# Altium integrated library Analog Devices Data Converters Digital-to-Analog Converters.IntLib: 2231 symbols (part 80 of 181)
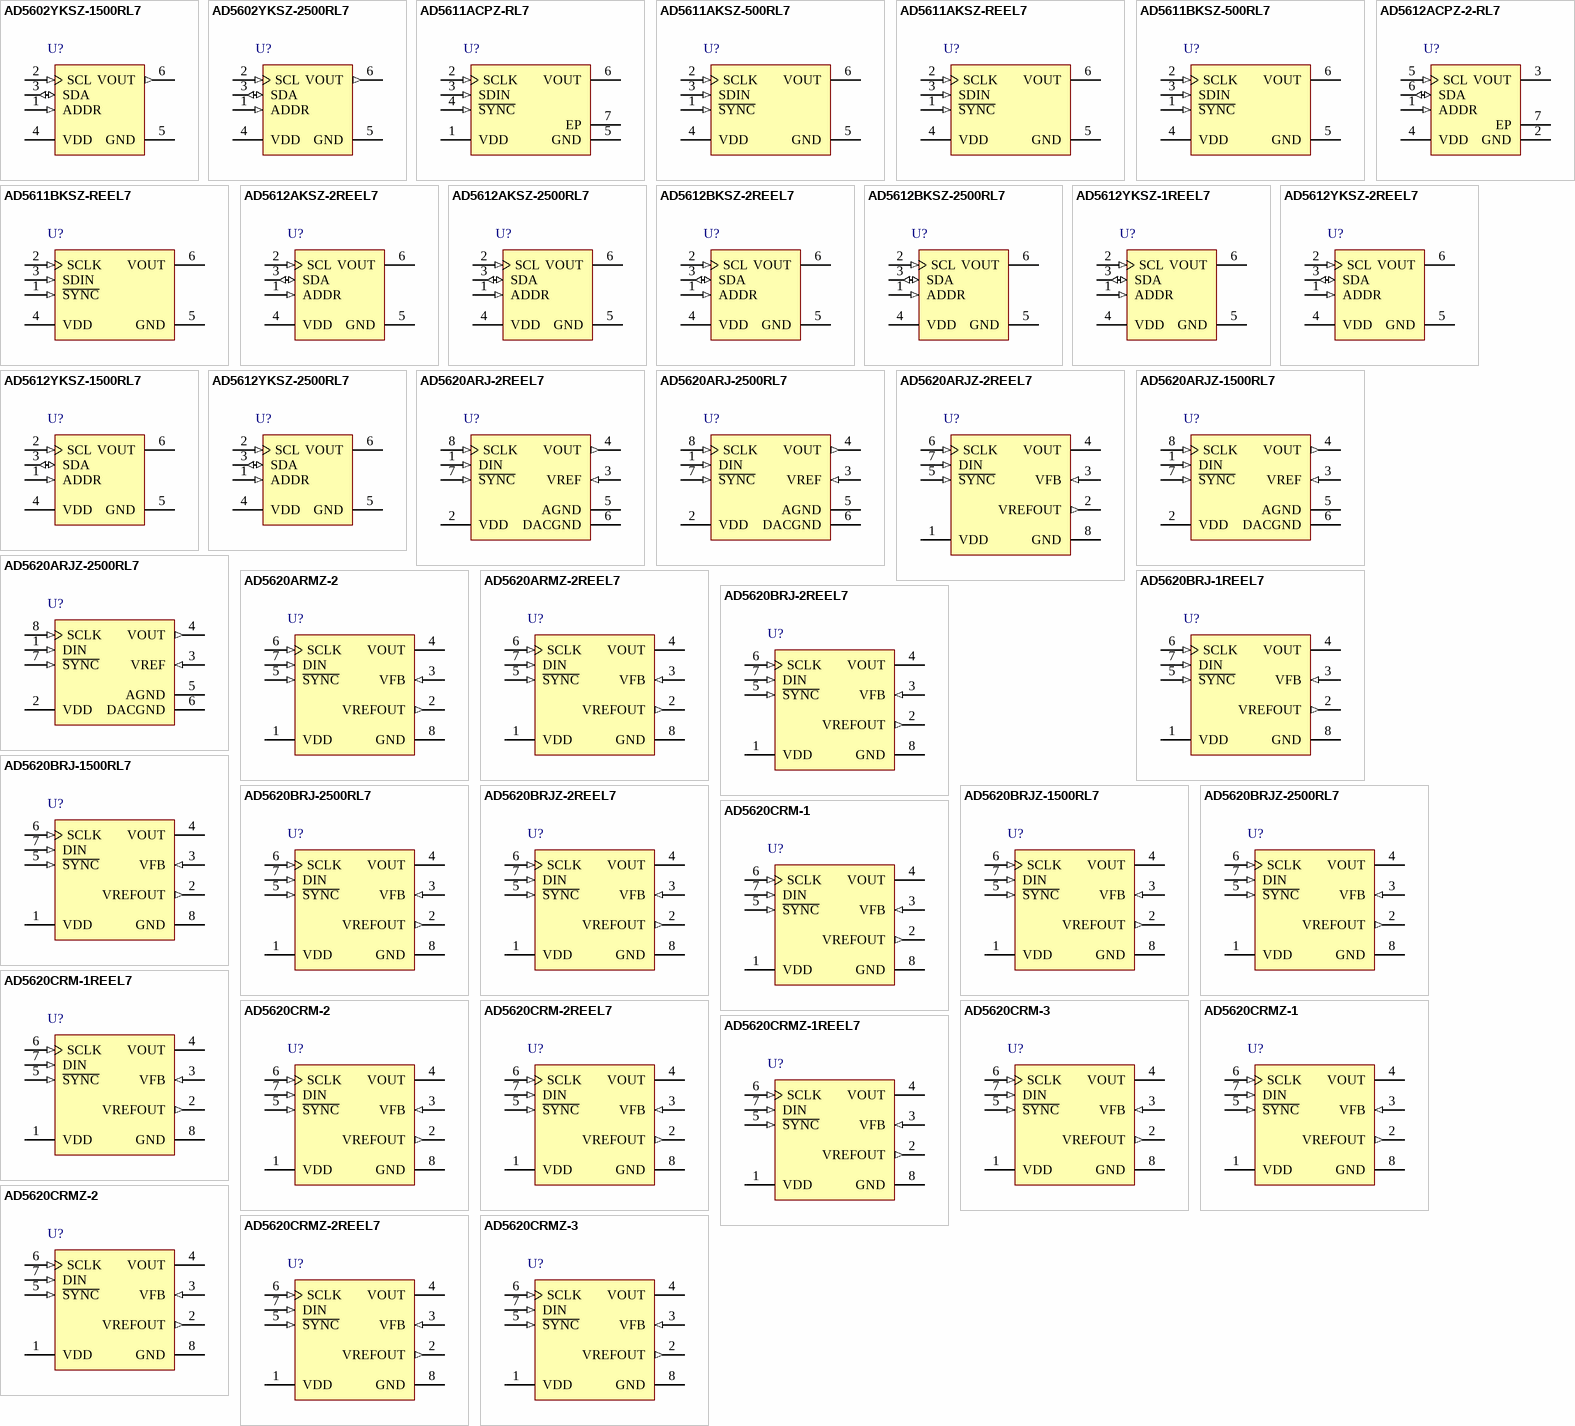
[diagram p193: symbols AD5602YKSZ-1500RL7 to AD5620CRMZ-3]

## AD5620CRM-3
designator U?
Single 12-Bit nanoDAC with 5 ppm/degC On-Chip Reference, -40 to +105 degC, RM-8, Tube; Generic Part Number: AD5620; Manufacturer: Analog Devices; PartNumber: AD5620CRM-3; # DAC Outputs: 1; Max V+: 5.5V; Op Pwr Diss: 5mW; Resolution (Bits): 12; Settling Time: 8µs; Single Supply: Yes; DatasheetVersion: Rev.F; PackageVersion: Aug-2005; PackageReference: RM-8; PackageDescription: 8-Lead Mini Small Outline Package [MSOP]; Supplier 1: Digi-Key; Supplier Part Number 1: AD5620CRM-3-ND; Supplier 2: Mouser; Supplier Part Number 2: 584-AD5620CRM-3; Packing: Tube; RoHS: N; Mounting Technology: Surface Mount; Code_JEDEC: MO-187-AA; ComponentLink1Description: Manufacturer URL; ComponentLink1URL: http://www.analog.com/en/index.html; ComponentLink2Description: Datasheet; ComponentLink2URL: http://www.analog.com/static/imported-files/data_sheets/AD5620_5640_5660.pdf; ComponentLink3Description: Package Specification; ComponentLink3URL: http://www.analog.com/static/imported-files/packages/PKG_PDF/MSOP%28RM%29/RM_8.pdf; ComponentLink4Description: Product URL; ComponentLink4URL: http://www.analog.com/en/digital-to-analog-converters/da-converters/ad5620/products/product.html; ComponentLink5Description: Reference Design URL; ComponentLink5URL: http://www.analog.com/en/digital-to-analog-converters/da-converters/ad5620/products/product.html#prod_cross_sell
footprint RM-8_N (TSOP, 8-Leads, Body 3x3mm, Pitch 0.65mm, IPC Medium Density)
footprint RM-8_L (TSOP, 8-Leads, Body 3x3mm, Pitch 0.65mm, IPC High Density)
footprint RM-8_M (TSOP, 8-Leads, Body 3x3mm, Pitch 0.65mm, IPC Low Density)
pins: 1 VDD (power) "Power Supply Input. These parts can operate from 2.7 V to 5.5 V. VDD should be decoupled to GND.", 2 VREFOUT (out) "Reference Voltage Output.", 3 VFB (in) "Feedback Connection for the Output Amplifier. VFB should be connected to VOUT for normal operation.", 4 VOUT (hiz) "Analog Output Voltage from DAC. The output amplifier has rail-to-rail operation.", 5 ~{SYNC} (in) "Level-Triggered Control Input (Active Low). This is the frame synchronization signal for the input data. When S\Y\N\C\ goes low, it enables the input shift register and data is transferred in on the falling edges of the (See Datasheet)", 6 SCLK (in) "Serial Clock Input. Data is clocked into the input shift register on the falling edge of the serial clock input. Data can be transferred at rates up to 30 MHz.", 7 DIN (in) "Serial Data Input. the AD5620 have a 16-bit shift register. Data is clocked into the register on the falling edge of the serial clock input.", 8 GND (power) "Ground Reference Point for all Circuitry on the Part."

## AD5620CRMZ-1
designator U?
Single 12-Bit nanoDAC with 5 ppm/degC On-Chip Reference, -40 to +105 degC, RM-8, Pb-Free, Tube; Generic Part Number: AD5620; Manufacturer: Analog Devices; PartNumber: AD5620CRMZ-1; # DAC Outputs: 1; Max V+: 5.5V; Op Pwr Diss: 5mW; Resolution (Bits): 12; Settling Time: 8µs; Single Supply: Yes; DatasheetVersion: Rev.F; PackageVersion: Aug-2005; PackageReference: RM-8; PackageDescription: 8-Lead Mini Small Outline Package [MSOP]; Supplier 1: Digi-Key; Supplier Part Number 1: AD5620CRMZ-1-ND; Supplier 2: Newark; Supplier Part Number 2: 91R2578; Supplier 3: Mouser; Supplier Part Number 3: 584-AD5620CRMZ-1; Packing: Tube; RoHS: Y; Mounting Technology: Surface Mount; Code_JEDEC: MO-187-AA; ComponentLink1Description: Manufacturer URL; ComponentLink1URL: http://www.analog.com/en/index.html; ComponentLink2Description: Datasheet; ComponentLink2URL: http://www.analog.com/static/imported-files/data_sheets/AD5620_5640_5660.pdf; ComponentLink3Description: Package Specification; ComponentLink3URL: http://www.analog.com/static/imported-files/packages/PKG_PDF/MSOP%28RM%29/RM_8.pdf; ComponentLink4Description: Product URL; ComponentLink4URL: http://www.analog.com/en/digital-to-analog-converters/da-converters/ad5620/products/product.html; ComponentLink5Description: Reference Design URL; ComponentLink5URL: http://www.analog.com/en/digital-to-analog-converters/da-converters/ad5620/products/product.html#prod_cross_sell
footprint RM-8_N (TSOP, 8-Leads, Body 3x3mm, Pitch 0.65mm, IPC Medium Density)
footprint RM-8_L (TSOP, 8-Leads, Body 3x3mm, Pitch 0.65mm, IPC High Density)
footprint RM-8_M (TSOP, 8-Leads, Body 3x3mm, Pitch 0.65mm, IPC Low Density)
pins: 1 VDD (power) "Power Supply Input. These parts can operate from 2.7 V to 5.5 V. VDD should be decoupled to GND.", 2 VREFOUT (out) "Reference Voltage Output.", 3 VFB (in) "Feedback Connection for the Output Amplifier. VFB should be connected to VOUT for normal operation.", 4 VOUT (hiz) "Analog Output Voltage from DAC. The output amplifier has rail-to-rail operation.", 5 ~{SYNC} (in) "Level-Triggered Control Input (Active Low). This is the frame synchronization signal for the input data. When S\Y\N\C\ goes low, it enables the input shift register and data is transferred in on the falling edges of the (See Datasheet)", 6 SCLK (in) "Serial Clock Input. Data is clocked into the input shift register on the falling edge of the serial clock input. Data can be transferred at rates up to 30 MHz.", 7 DIN (in) "Serial Data Input. the AD5620 have a 16-bit shift register. Data is clocked into the register on the falling edge of the serial clock input.", 8 GND (power) "Ground Reference Point for all Circuitry on the Part."

## AD5620CRMZ-1REEL7
designator U?
Single 12-Bit nanoDAC with 5 ppm/degC On-Chip Reference, -40 to +105 degC, RM-8, Pb-Free, Reel; Generic Part Number: AD5620; Manufacturer: Analog Devices; PartNumber: AD5620CRMZ-1REEL7; # DAC Outputs: 1; Max V+: 5.5V; Op Pwr Diss: 5mW; Resolution (Bits): 12; Settling Time: 8µs; Single Supply: Yes; DatasheetVersion: Rev.F; PackageVersion: Aug-2005; PackageReference: RM-8; PackageDescription: 8-Lead Mini Small Outline Package [MSOP]; Supplier 1: Digi-Key; Supplier Part Number 1: AD5620CRMZ-1REEL7-ND; Supplier 2: Newark; Supplier Part Number 2: 91R2579; Supplier 3: Mouser; Supplier Part Number 3: 584-AD5620CRMZ-1R7; Packing: Reel; RoHS: Y; Mounting Technology: Surface Mount; Code_JEDEC: MO-187-AA; ComponentLink1Description: Manufacturer URL; ComponentLink1URL: http://www.analog.com/en/index.html; ComponentLink2Description: Datasheet; ComponentLink2URL: http://www.analog.com/static/imported-files/data_sheets/AD5620_5640_5660.pdf; ComponentLink3Description: Package Specification; ComponentLink3URL: http://www.analog.com/static/imported-files/packages/PKG_PDF/MSOP%28RM%29/RM_8.pdf; ComponentLink4Description: Product URL; ComponentLink4URL: http://www.analog.com/en/digital-to-analog-converters/da-converters/ad5620/products/product.html; ComponentLink5Description: Reference Design URL; ComponentLink5URL: http://www.analog.com/en/digital-to-analog-converters/da-converters/ad5620/products/product.html#prod_cross_sell
footprint RM-8_N (TSOP, 8-Leads, Body 3x3mm, Pitch 0.65mm, IPC Medium Density)
footprint RM-8_L (TSOP, 8-Leads, Body 3x3mm, Pitch 0.65mm, IPC High Density)
footprint RM-8_M (TSOP, 8-Leads, Body 3x3mm, Pitch 0.65mm, IPC Low Density)
pins: 1 VDD (power) "Power Supply Input. These parts can operate from 2.7 V to 5.5 V. VDD should be decoupled to GND.", 2 VREFOUT (out) "Reference Voltage Output.", 3 VFB (in) "Feedback Connection for the Output Amplifier. VFB should be connected to VOUT for normal operation.", 4 VOUT (hiz) "Analog Output Voltage from DAC. The output amplifier has rail-to-rail operation.", 5 ~{SYNC} (in) "Level-Triggered Control Input (Active Low). This is the frame synchronization signal for the input data. When S\Y\N\C\ goes low, it enables the input shift register and data is transferred in on the falling edges of the (See Datasheet)", 6 SCLK (in) "Serial Clock Input. Data is clocked into the input shift register on the falling edge of the serial clock input. Data can be transferred at rates up to 30 MHz.", 7 DIN (in) "Serial Data Input. the AD5620 have a 16-bit shift register. Data is clocked into the register on the falling edge of the serial clock input.", 8 GND (power) "Ground Reference Point for all Circuitry on the Part."

## AD5620CRMZ-2
designator U?
Single 12-Bit nanoDAC with 5 ppm/degC On-Chip Reference, -40 to +105 degC, RM-8, Pb-Free, Tube; Generic Part Number: AD5620; Manufacturer: Analog Devices; PartNumber: AD5620CRMZ-2; # DAC Outputs: 1; Max V+: 5.5V; Op Pwr Diss: 5mW; Resolution (Bits): 12; Settling Time: 8µs; Single Supply: Yes; DatasheetVersion: Rev.F; PackageVersion: Aug-2005; PackageReference: RM-8; PackageDescription: 8-Lead Mini Small Outline Package [MSOP]; Supplier 1: Digi-Key; Supplier Part Number 1: AD5620CRMZ-2-ND; Supplier 2: Farnell; Supplier Part Number 2: 1438913; Supplier 3: Newark; Supplier Part Number 3: 28M3996; Supplier 4: Mouser; Supplier Part Number 4: 584-AD5620CRMZ-2; Packing: Tube; RoHS: Y; Mounting Technology: Surface Mount; Code_JEDEC: MO-187-AA; ComponentLink1Description: Manufacturer URL; ComponentLink1URL: http://www.analog.com/en/index.html; ComponentLink2Description: Datasheet; ComponentLink2URL: http://www.analog.com/static/imported-files/data_sheets/AD5620_5640_5660.pdf; ComponentLink3Description: Package Specification; ComponentLink3URL: http://www.analog.com/static/imported-files/packages/PKG_PDF/MSOP%28RM%29/RM_8.pdf; ComponentLink4Description: Product URL; ComponentLink4URL: http://www.analog.com/en/digital-to-analog-converters/da-converters/ad5620/products/product.html; ComponentLink5Description: Reference Design URL; ComponentLink5URL: http://www.analog.com/en/digital-to-analog-converters/da-converters/ad5620/products/product.html#prod_cross_sell
footprint RM-8_N (TSOP, 8-Leads, Body 3x3mm, Pitch 0.65mm, IPC Medium Density)
footprint RM-8_L (TSOP, 8-Leads, Body 3x3mm, Pitch 0.65mm, IPC High Density)
footprint RM-8_M (TSOP, 8-Leads, Body 3x3mm, Pitch 0.65mm, IPC Low Density)
pins: 1 VDD (power) "Power Supply Input. These parts can operate from 2.7 V to 5.5 V. VDD should be decoupled to GND.", 2 VREFOUT (out) "Reference Voltage Output.", 3 VFB (in) "Feedback Connection for the Output Amplifier. VFB should be connected to VOUT for normal operation.", 4 VOUT (hiz) "Analog Output Voltage from DAC. The output amplifier has rail-to-rail operation.", 5 ~{SYNC} (in) "Level-Triggered Control Input (Active Low). This is the frame synchronization signal for the input data. When S\Y\N\C\ goes low, it enables the input shift register and data is transferred in on the falling edges of the (See Datasheet)", 6 SCLK (in) "Serial Clock Input. Data is clocked into the input shift register on the falling edge of the serial clock input. Data can be transferred at rates up to 30 MHz.", 7 DIN (in) "Serial Data Input. the AD5620 have a 16-bit shift register. Data is clocked into the register on the falling edge of the serial clock input.", 8 GND (power) "Ground Reference Point for all Circuitry on the Part."

## AD5620CRMZ-2REEL7
designator U?
Single 12-Bit nanoDAC with 5 ppm/degC On-Chip Reference, -40 to +105 degC, RM-8, Pb-Free, Reel; Generic Part Number: AD5620; Manufacturer: Analog Devices; PartNumber: AD5620CRMZ-2REEL7; # DAC Outputs: 1; Max V+: 5.5V; Op Pwr Diss: 5mW; Resolution (Bits): 12; Settling Time: 8µs; Single Supply: Yes; DatasheetVersion: Rev.F; PackageVersion: Aug-2005; PackageReference: RM-8; PackageDescription: 8-Lead Mini Small Outline Package [MSOP]; Supplier 1: Digi-Key; Supplier Part Number 1: AD5620CRMZ-2REEL7-ND; Supplier 2: Newark; Supplier Part Number 2: 28M3997; Supplier 3: Mouser; Supplier Part Number 3: 584-AD5620CRMZ-2R7; Packing: Reel; RoHS: Y; Mounting Technology: Surface Mount; Code_JEDEC: MO-187-AA; ComponentLink1Description: Manufacturer URL; ComponentLink1URL: http://www.analog.com/en/index.html; ComponentLink2Description: Datasheet; ComponentLink2URL: http://www.analog.com/static/imported-files/data_sheets/AD5620_5640_5660.pdf; ComponentLink3Description: Package Specification; ComponentLink3URL: http://www.analog.com/static/imported-files/packages/PKG_PDF/MSOP%28RM%29/RM_8.pdf; ComponentLink4Description: Product URL; ComponentLink4URL: http://www.analog.com/en/digital-to-analog-converters/da-converters/ad5620/products/product.html; ComponentLink5Description: Reference Design URL; ComponentLink5URL: http://www.analog.com/en/digital-to-analog-converters/da-converters/ad5620/products/product.html#prod_cross_sell
footprint RM-8_N (TSOP, 8-Leads, Body 3x3mm, Pitch 0.65mm, IPC Medium Density)
footprint RM-8_L (TSOP, 8-Leads, Body 3x3mm, Pitch 0.65mm, IPC High Density)
footprint RM-8_M (TSOP, 8-Leads, Body 3x3mm, Pitch 0.65mm, IPC Low Density)
pins: 1 VDD (power) "Power Supply Input. These parts can operate from 2.7 V to 5.5 V. VDD should be decoupled to GND.", 2 VREFOUT (out) "Reference Voltage Output.", 3 VFB (in) "Feedback Connection for the Output Amplifier. VFB should be connected to VOUT for normal operation.", 4 VOUT (hiz) "Analog Output Voltage from DAC. The output amplifier has rail-to-rail operation.", 5 ~{SYNC} (in) "Level-Triggered Control Input (Active Low). This is the frame synchronization signal for the input data. When S\Y\N\C\ goes low, it enables the input shift register and data is transferred in on the falling edges of the (See Datasheet)", 6 SCLK (in) "Serial Clock Input. Data is clocked into the input shift register on the falling edge of the serial clock input. Data can be transferred at rates up to 30 MHz.", 7 DIN (in) "Serial Data Input. the AD5620 have a 16-bit shift register. Data is clocked into the register on the falling edge of the serial clock input.", 8 GND (power) "Ground Reference Point for all Circuitry on the Part."

## AD5620CRMZ-3
designator U?
Single 12-Bit nanoDAC with 5 ppm/degC On-Chip Reference, -40 to +105 degC, RM-8, Pb-Free, Tube; Generic Part Number: AD5620; Manufacturer: Analog Devices; PartNumber: AD5620CRMZ-3; # DAC Outputs: 1; Max V+: 5.5V; Op Pwr Diss: 5mW; Resolution (Bits): 12; Settling Time: 8µs; Single Supply: Yes; DatasheetVersion: Rev.F; PackageVersion: Aug-2005; PackageReference: RM-8; PackageDescription: 8-Lead Mini Small Outline Package [MSOP]; Supplier 1: Digi-Key; Supplier Part Number 1: AD5620CRMZ-3-ND; Supplier 2: Mouser; Supplier Part Number 2: 584-AD5620CRMZ-3; Packing: Tube; RoHS: Y; Mounting Technology: Surface Mount; Code_JEDEC: MO-187-AA; ComponentLink1Description: Manufacturer URL; ComponentLink1URL: http://www.analog.com/en/index.html; ComponentLink2Description: Datasheet; ComponentLink2URL: http://www.analog.com/static/imported-files/data_sheets/AD5620_5640_5660.pdf; ComponentLink3Description: Package Specification; ComponentLink3URL: http://www.analog.com/static/imported-files/packages/PKG_PDF/MSOP%28RM%29/RM_8.pdf; ComponentLink4Description: Product URL; ComponentLink4URL: http://www.analog.com/en/digital-to-analog-converters/da-converters/ad5620/products/product.html; ComponentLink5Description: Reference Design URL; ComponentLink5URL: http://www.analog.com/en/digital-to-analog-converters/da-converters/ad5620/products/product.html#prod_cross_sell
footprint RM-8_N (TSOP, 8-Leads, Body 3x3mm, Pitch 0.65mm, IPC Medium Density)
footprint RM-8_L (TSOP, 8-Leads, Body 3x3mm, Pitch 0.65mm, IPC High Density)
footprint RM-8_M (TSOP, 8-Leads, Body 3x3mm, Pitch 0.65mm, IPC Low Density)
pins: 1 VDD (power) "Power Supply Input. These parts can operate from 2.7 V to 5.5 V. VDD should be decoupled to GND.", 2 VREFOUT (out) "Reference Voltage Output.", 3 VFB (in) "Feedback Connection for the Output Amplifier. VFB should be connected to VOUT for normal operation.", 4 VOUT (hiz) "Analog Output Voltage from DAC. The output amplifier has rail-to-rail operation.", 5 ~{SYNC} (in) "Level-Triggered Control Input (Active Low). This is the frame synchronization signal for the input data. When S\Y\N\C\ goes low, it enables the input shift register and data is transferred in on the falling edges of the (See Datasheet)", 6 SCLK (in) "Serial Clock Input. Data is clocked into the input shift register on the falling edge of the serial clock input. Data can be transferred at rates up to 30 MHz.", 7 DIN (in) "Serial Data Input. the AD5620 have a 16-bit shift register. Data is clocked into the register on the falling edge of the serial clock input.", 8 GND (power) "Ground Reference Point for all Circuitry on the Part."

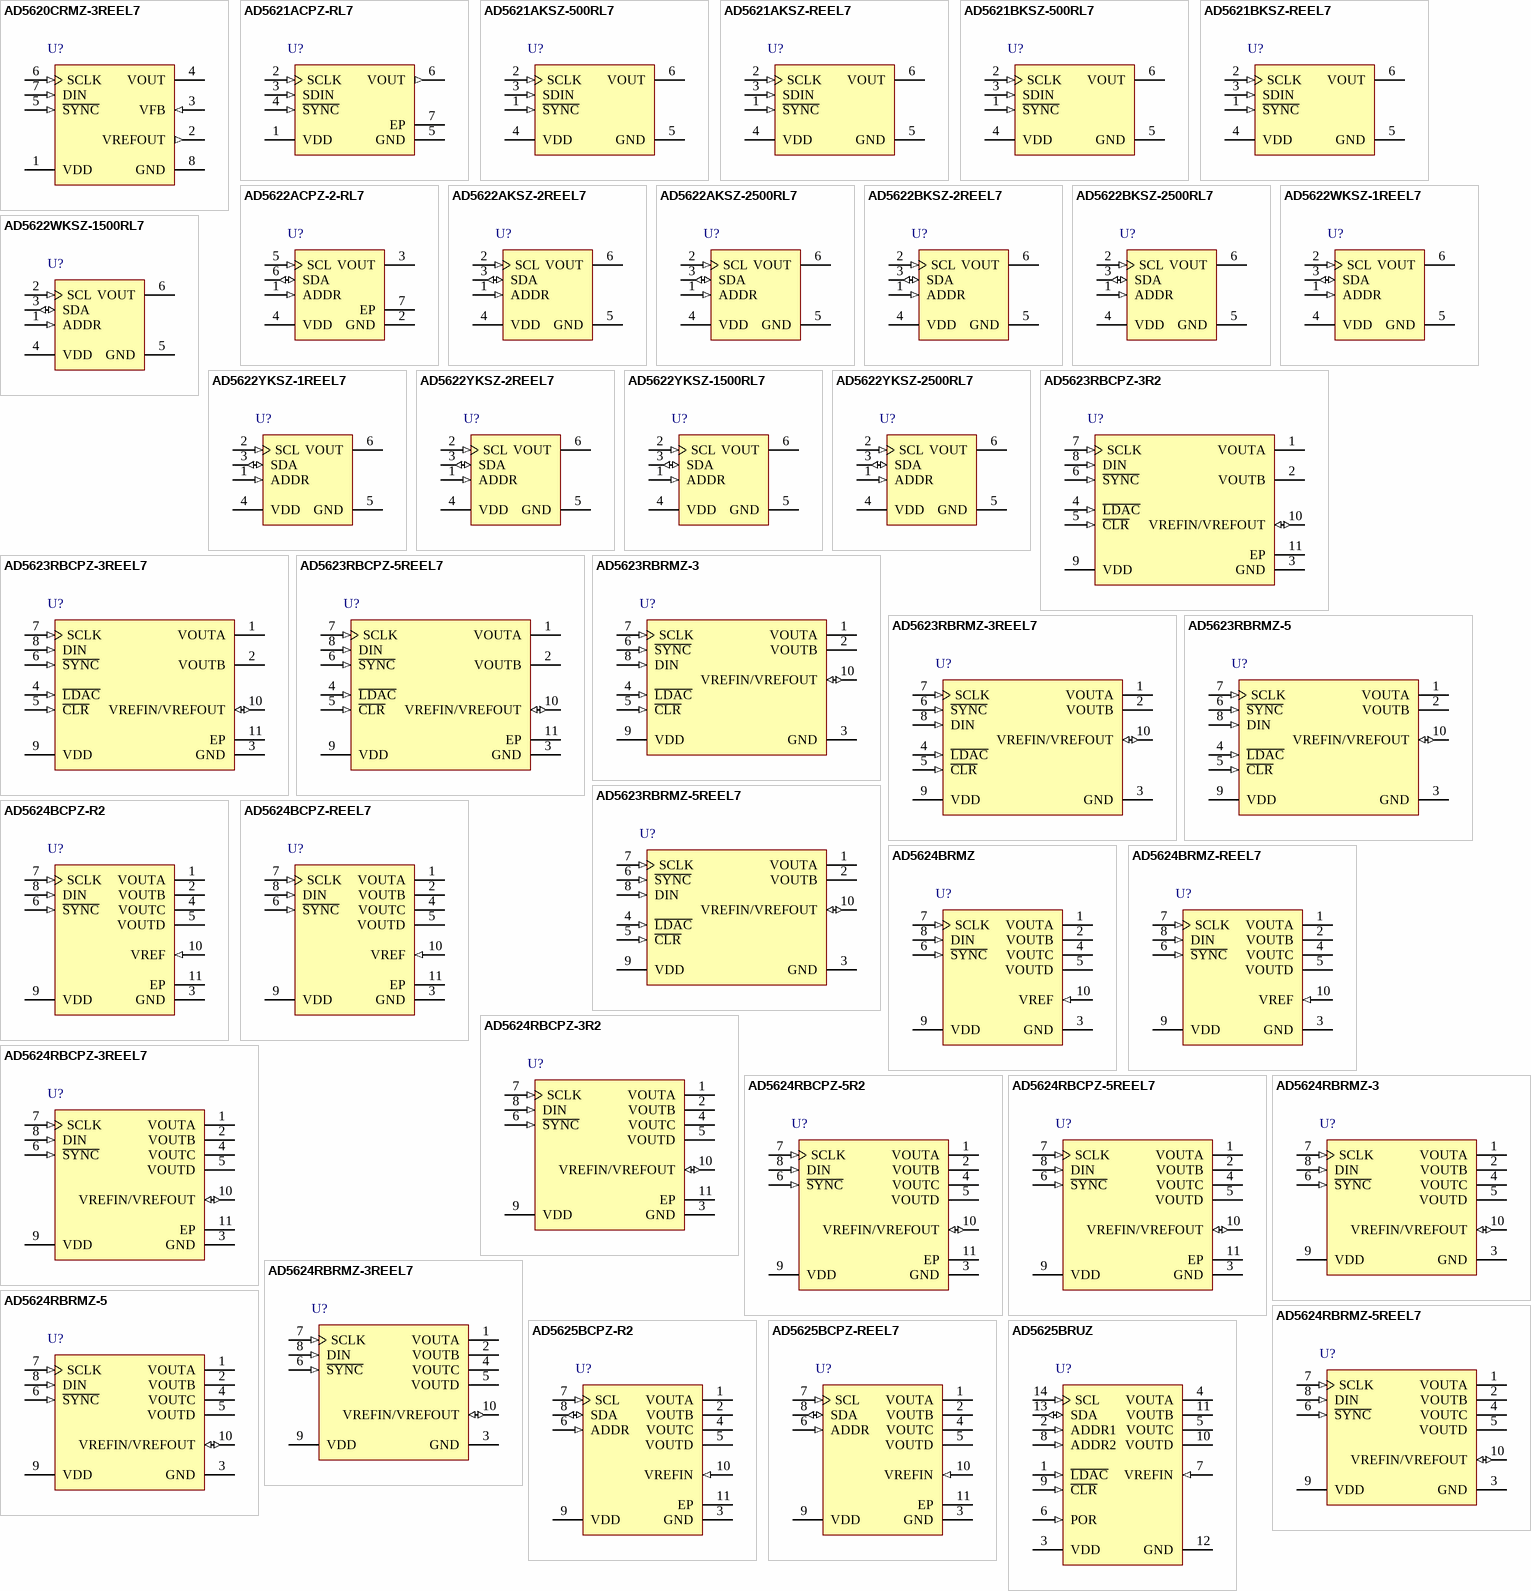
[diagram p44: symbols AD5620CRMZ-3REEL7 to AD5625BRUZ]

## AD5620CRMZ-3REEL7
designator U?
Single 12-Bit nanoDAC with 5 ppm/degC On-Chip Reference, -40 to +105 degC, RM-8, Pb-Free, Reel; Generic Part Number: AD5620; Manufacturer: Analog Devices; PartNumber: AD5620CRMZ-3REEL7; # DAC Outputs: 1; Max V+: 5.5V; Op Pwr Diss: 5mW; Resolution (Bits): 12; Settling Time: 8µs; Single Supply: Yes; DatasheetVersion: Rev.F; PackageVersion: Aug-2005; PackageReference: RM-8; PackageDescription: 8-Lead Mini Small Outline Package [MSOP]; Supplier 1: Digi-Key; Supplier Part Number 1: AD5620CRMZ-3REEL7-ND; Supplier 2: Mouser; Supplier Part Number 2: 584-AD5620CRMZ-3R7; Packing: Reel; RoHS: Y; Mounting Technology: Surface Mount; Code_JEDEC: MO-187-AA; ComponentLink1Description: Manufacturer URL; ComponentLink1URL: http://www.analog.com/en/index.html; ComponentLink2Description: Datasheet; ComponentLink2URL: http://www.analog.com/static/imported-files/data_sheets/AD5620_5640_5660.pdf; ComponentLink3Description: Package Specification; ComponentLink3URL: http://www.analog.com/static/imported-files/packages/PKG_PDF/MSOP%28RM%29/RM_8.pdf; ComponentLink4Description: Product URL; ComponentLink4URL: http://www.analog.com/en/digital-to-analog-converters/da-converters/ad5620/products/product.html; ComponentLink5Description: Reference Design URL; ComponentLink5URL: http://www.analog.com/en/digital-to-analog-converters/da-converters/ad5620/products/product.html#prod_cross_sell
footprint RM-8_N (TSOP, 8-Leads, Body 3x3mm, Pitch 0.65mm, IPC Medium Density)
footprint RM-8_L (TSOP, 8-Leads, Body 3x3mm, Pitch 0.65mm, IPC High Density)
footprint RM-8_M (TSOP, 8-Leads, Body 3x3mm, Pitch 0.65mm, IPC Low Density)
pins: 1 VDD (power) "Power Supply Input. These parts can operate from 2.7 V to 5.5 V. VDD should be decoupled to GND.", 2 VREFOUT (out) "Reference Voltage Output.", 3 VFB (in) "Feedback Connection for the Output Amplifier. VFB should be connected to VOUT for normal operation.", 4 VOUT (hiz) "Analog Output Voltage from DAC. The output amplifier has rail-to-rail operation.", 5 ~{SYNC} (in) "Level-Triggered Control Input (Active Low). This is the frame synchronization signal for the input data. When S\Y\N\C\ goes low, it enables the input shift register and data is transferred in on the falling edges of the (See Datasheet)", 6 SCLK (in) "Serial Clock Input. Data is clocked into the input shift register on the falling edge of the serial clock input. Data can be transferred at rates up to 30 MHz.", 7 DIN (in) "Serial Data Input. the AD5620 have a 16-bit shift register. Data is clocked into the register on the falling edge of the serial clock input.", 8 GND (power) "Ground Reference Point for all Circuitry on the Part."

## AD5621ACPZ-RL7
designator U?
Single 12-Bit nanoDAC with SPI Interface, 2.7 to 5.5 V, <100 uA, -40 to +125 degC, CP-6-5, Pb-Free, Reel; Generic Part Number: AD5621; Manufacturer: Analog Devices; PartNumber: AD5621ACPZ-RL7; # DAC Outputs: 1; Max V+: 5.5V; Op Pwr Diss: 550µW; Resolution (Bits): 12; Settling Time: 6µs; Single Supply: Yes; DatasheetVersion: Rev.F; PackageVersion: 10-18-2010 A; PackageReference: CP-6-5; PackageDescription: 6-Lead Lead Frame Chip Scale Package [LFCSP_WD] 2 × 3 mm Body, Very Very Thin, Dual Lead; Supplier 1: Digi-Key; Supplier Part Number 1: AD5621ACPZ-RL7TR-ND; Supplier 2: Digi-Key; Supplier Part Number 2: AD5621ACPZ-RL7CT-ND; Supplier 3: Digi-Key; Supplier Part Number 3: AD5621ACPZ-RL7DKR-ND; Supplier 4: Farnell; Supplier Part Number 4: 2102392; Supplier 5: Newark; Supplier Part Number 5: 86T6089; Supplier 6: Newark; Supplier Part Number 6: 92T3214; Supplier 7: Mouser; Supplier Part Number 7: 584-AD5621ACPZ-R7; Packing: Reel; RoHS: Y; Mounting Technology: Surface Mount; Code_JEDEC: MO-229; ComponentLink1Description: Manufacturer URL; ComponentLink1URL: http://www.analog.com/en/index.html; ComponentLink2Description: Datasheet; ComponentLink2URL: http://www.analog.com/static/imported-files/data_sheets/AD5601_5611_5621.pdf; ComponentLink3Description: Package Specification; ComponentLink3URL: http://www.analog.com/static/imported-files/data_sheets/AD5062.pdf; ComponentLink4Description: Product URL; ComponentLink4URL: http://www.analog.com/en/digital-to-analog-converters/da-converters/ad5621/products/product.html; ComponentLink5Description: Reference Design URL; ComponentLink5URL: http://www.analog.com/en/digital-to-analog-converters/da-converters/ad5621/products/product.html#prod_cross_sell
footprint CP-6-5_N (SON, 6-Leads, Body 3x2mm, Pitch 0.65mm, Thermal Pad 1.6x1.4mm, IPC Medium Density)
footprint CP-6-5_L (SON, 6-Leads, Body 3x2mm, Pitch 0.65mm, Thermal Pad 1.6x1.4mm, IPC High Density)
footprint CP-6-5_M (SON, 6-Leads, Body 3x2mm, Pitch 0.65mm, Thermal Pad 1.6x1.4mm, IPC Low Density)
pins: 1 VDD (power) "Power Supply Input. The AD5601/AD5611/AD5621 can be operated from 2.7 V to 5.5 V. VDD should be decoupled to GND.", 2 SCLK (in) "Serial Clock Input. Data is clocked into the input shift register on the falling edge of the serial clock input. Data can be transferred at rates up to 30 MHz.", 3 SDIN (in) "Serial Data Input. This device has a 16-bit shift register. Data is clocked into the register on the falling edge of the serial clock input.", 4 ~{SYNC} (in) "Level-Triggered Control Input (Active Low). This is the frame synchronization signal for the input data. When S\Y\N\C\ goes low, it enables the input shift register, and data is transferred in on the fallingdata is (See Datasheet)", 5 GND (power) "Ground. Ground reference point for all circuitry on the AD5621", 6 VOUT (out) "Analog Output Voltage from the DAC. The output amplifier has rail-to-rail operation", 7 EP (power) "Exposed Pad. Connect to GND."

## AD5621AKSZ-500RL7
designator U?
Single 12-Bit nanoDAC with SPI Interface, 2.7 to 5.5 V, <100 uA, -40 to +125 degC, KS-6, Pb-Free, Reel; Generic Part Number: AD5621; Manufacturer: Analog Devices; PartNumber: AD5621AKSZ-500RL7; # DAC Outputs: 1; Max V+: 5.5V; Op Pwr Diss: 550µW; Resolution (Bits): 12; Settling Time: 6µs; Single Supply: Yes; DatasheetVersion: Rev.F; PackageVersion: 072809-A; PackageReference: KS-6; PackageDescription: 6-Lead Thin Shrink Small Outline Transistor Package [SC70]; Supplier 1: Digi-Key; Supplier Part Number 1: AD5621AKSZ-500RL7TR-ND; Supplier 2: Digi-Key; Supplier Part Number 2: AD5621AKSZ-500RL7CT-ND; Supplier 3: Digi-Key; Supplier Part Number 3: AD5621AKSZ-500RL7DKR-ND; Supplier 4: Farnell; Supplier Part Number 4: 1117911RL; Supplier 5: Farnell; Supplier Part Number 5: 1117911; Supplier 6: Newark; Supplier Part Number 6: 59K4277; Supplier 7: Newark; Supplier Part Number 7: 19M0821; Supplier 8: Mouser; Supplier Part Number 8: 584-AD5621AKSZ-500R7; Packing: Reel; RoHS: Y; Mounting Technology: Surface Mount; Code_JEDEC: MO-203-AB; ComponentLink1Description: Manufacturer URL; ComponentLink1URL: http://www.analog.com/en/index.html; ComponentLink2Description: Datasheet; ComponentLink2URL: http://www.analog.com/static/imported-files/data_sheets/AD5601_5611_5621.pdf; ComponentLink3Description: Package Specification; ComponentLink3URL: http://www.analog.com/static/imported-files/packages/PKG_PDF/SC70(KS)/KS_6.pdf; ComponentLink4Description: Product URL; ComponentLink4URL: http://www.analog.com/en/digital-to-analog-converters/da-converters/ad5621/products/product.html; ComponentLink5Description: Reference Design URL; ComponentLink5URL: http://www.analog.com/en/digital-to-analog-converters/da-converters/ad5621/products/product.html#prod_cross_sell
footprint KS-6_N (SOT23, 6-Leads, Body 2x1.3mm, Pitch 0.65mm, Lead Span 2.1mm, IPC Medium Density)
footprint KS-6_L (SOT23, 6-Leads, Body 2x1.3mm, Pitch 0.65mm, Lead Span 2.1mm, IPC High Density)
footprint KS-6_M (SOT23, 6-Leads, Body 2x1.3mm, Pitch 0.65mm, Lead Span 2.1mm, IPC Low Density)
pins: 1 ~{SYNC} (in) "Level-Triggered Control Input (Active Low). This is the frame synchronization signal for the input data. When S\Y\N\C\ goes low, it enables the input shift register, and data is transferred in on the falling edges of the (See Datasheet)", 2 SCLK (in) "Serial Clock Input. Data is clocked into the input shift register on the falling edge of the serial clock input. Data can be transferred at rates up to 30 MHz.", 3 SDIN (in) "Serial Data Input. This device has a 16-bit shift register. Data is clocked into the register on the falling edge of the serial clock input.", 4 VDD (power) "Power Supply Input. The AD5621 can be operated from 2.7 V to 5.5 V. VDD should be decoupled to GND.", 5 GND (power) "Ground. Ground reference point for all circuitry on the AD5621.", 6 VOUT (hiz) "Analog Output Voltage from the DAC. The output amplifier has rail-to-rail operation."

## AD5621AKSZ-REEL7
designator U?
Single 12-Bit nanoDAC with SPI Interface, 2.7 to 5.5 V, <100 uA, -40 to +125 degC, KS-6, Pb-Free, Reel; Generic Part Number: AD5621; Manufacturer: Analog Devices; PartNumber: AD5621AKSZ-REEL7; # DAC Outputs: 1; Max V+: 5.5V; Op Pwr Diss: 550µW; Resolution (Bits): 12; Settling Time: 6µs; Single Supply: Yes; DatasheetVersion: Rev.F; PackageVersion: 072809-A; PackageReference: KS-6; PackageDescription: 6-Lead Thin Shrink Small Outline Transistor Package [SC70]; Supplier 1: Digi-Key; Supplier Part Number 1: AD5621AKSZ-REEL7TR-ND; Supplier 2: Digi-Key; Supplier Part Number 2: AD5621AKSZ-REEL7CT-ND; Supplier 3: Digi-Key; Supplier Part Number 3: AD5621AKSZ-REEL7DKR-ND; Supplier 4: Farnell; Supplier Part Number 4: 2312972; Supplier 5: Newark; Supplier Part Number 5: 59K4276; Supplier 6: Newark; Supplier Part Number 6: 67W3161; Supplier 7: Mouser; Supplier Part Number 7: 584-AD5621AKSZ-R7; Packing: Reel; RoHS: Y; Mounting Technology: Surface Mount; Code_JEDEC: MO-203-AB; ComponentLink1Description: Manufacturer URL; ComponentLink1URL: http://www.analog.com/en/index.html; ComponentLink2Description: Datasheet; ComponentLink2URL: http://www.analog.com/static/imported-files/data_sheets/AD5601_5611_5621.pdf; ComponentLink3Description: Package Specification; ComponentLink3URL: http://www.analog.com/static/imported-files/packages/PKG_PDF/SC70(KS)/KS_6.pdf; ComponentLink4Description: Product URL; ComponentLink4URL: http://www.analog.com/en/digital-to-analog-converters/da-converters/ad5621/products/product.html; ComponentLink5Description: Reference Design URL; ComponentLink5URL: http://www.analog.com/en/digital-to-analog-converters/da-converters/ad5621/products/product.html#prod_cross_sell
footprint KS-6_N (SOT23, 6-Leads, Body 2x1.3mm, Pitch 0.65mm, Lead Span 2.1mm, IPC Medium Density)
footprint KS-6_L (SOT23, 6-Leads, Body 2x1.3mm, Pitch 0.65mm, Lead Span 2.1mm, IPC High Density)
footprint KS-6_M (SOT23, 6-Leads, Body 2x1.3mm, Pitch 0.65mm, Lead Span 2.1mm, IPC Low Density)
pins: 1 ~{SYNC} (in) "Level-Triggered Control Input (Active Low). This is the frame synchronization signal for the input data. When S\Y\N\C\ goes low, it enables the input shift register, and data is transferred in on the falling edges of the (See Datasheet)", 2 SCLK (in) "Serial Clock Input. Data is clocked into the input shift register on the falling edge of the serial clock input. Data can be transferred at rates up to 30 MHz.", 3 SDIN (in) "Serial Data Input. This device has a 16-bit shift register. Data is clocked into the register on the falling edge of the serial clock input.", 4 VDD (power) "Power Supply Input. The AD5621 can be operated from 2.7 V to 5.5 V. VDD should be decoupled to GND.", 5 GND (power) "Ground. Ground reference point for all circuitry on the AD5621.", 6 VOUT (hiz) "Analog Output Voltage from the DAC. The output amplifier has rail-to-rail operation."

## AD5621BKSZ-500RL7
designator U?
Single 12-Bit nanoDAC with SPI Interface, 2.7 to 5.5 V, <100 uA, -40 to +125 degC, KS-6, Pb-Free, Reel; Generic Part Number: AD5621; Manufacturer: Analog Devices; PartNumber: AD5621BKSZ-500RL7; # DAC Outputs: 1; Max V+: 5.5V; Op Pwr Diss: 550µW; Resolution (Bits): 12; Settling Time: 6µs; Single Supply: Yes; DatasheetVersion: Rev.F; PackageVersion: 072809-A; PackageReference: KS-6; PackageDescription: 6-Lead Thin Shrink Small Outline Transistor Package [SC70]; Supplier 1: Digi-Key; Supplier Part Number 1: AD5621BKSZ-500RL7TR-ND; Supplier 2: Digi-Key; Supplier Part Number 2: AD5621BKSZ-500RL7CT-ND; Supplier 3: Digi-Key; Supplier Part Number 3: AD5621BKSZ-500RL7DKR-ND; Supplier 4: Farnell; Supplier Part Number 4: 2074859; Supplier 5: Newark; Supplier Part Number 5: 64M7535; Supplier 6: Mouser; Supplier Part Number 6: 584-AD5621BKSZ-500R7; Packing: Reel; RoHS: Y; Mounting Technology: Surface Mount; Code_JEDEC: MO-203-AB; ComponentLink1Description: Manufacturer URL; ComponentLink1URL: http://www.analog.com/en/index.html; ComponentLink2Description: Datasheet; ComponentLink2URL: http://www.analog.com/static/imported-files/data_sheets/AD5601_5611_5621.pdf; ComponentLink3Description: Package Specification; ComponentLink3URL: http://www.analog.com/static/imported-files/packages/PKG_PDF/SC70(KS)/KS_6.pdf; ComponentLink4Description: Product URL; ComponentLink4URL: http://www.analog.com/en/digital-to-analog-converters/da-converters/ad5621/products/product.html; ComponentLink5Description: Reference Design URL; ComponentLink5URL: http://www.analog.com/en/digital-to-analog-converters/da-converters/ad5621/products/product.html#prod_cross_sell
footprint KS-6_N (SOT23, 6-Leads, Body 2x1.3mm, Pitch 0.65mm, Lead Span 2.1mm, IPC Medium Density)
footprint KS-6_L (SOT23, 6-Leads, Body 2x1.3mm, Pitch 0.65mm, Lead Span 2.1mm, IPC High Density)
footprint KS-6_M (SOT23, 6-Leads, Body 2x1.3mm, Pitch 0.65mm, Lead Span 2.1mm, IPC Low Density)
pins: 1 ~{SYNC} (in) "Level-Triggered Control Input (Active Low). This is the frame synchronization signal for the input data. When S\Y\N\C\ goes low, it enables the input shift register, and data is transferred in on the falling edges of the (See Datasheet)", 2 SCLK (in) "Serial Clock Input. Data is clocked into the input shift register on the falling edge of the serial clock input. Data can be transferred at rates up to 30 MHz.", 3 SDIN (in) "Serial Data Input. This device has a 16-bit shift register. Data is clocked into the register on the falling edge of the serial clock input.", 4 VDD (power) "Power Supply Input. The AD5621 can be operated from 2.7 V to 5.5 V. VDD should be decoupled to GND.", 5 GND (power) "Ground. Ground reference point for all circuitry on the AD5621.", 6 VOUT (hiz) "Analog Output Voltage from the DAC. The output amplifier has rail-to-rail operation."

## AD5621BKSZ-REEL7
designator U?
Single 12-Bit nanoDAC with SPI Interface, 2.7 to 5.5 V, <100 uA, -40 to +125 degC, KS-6, Pb-Free, Reel; Generic Part Number: AD5621; Manufacturer: Analog Devices; PartNumber: AD5621BKSZ-REEL7; # DAC Outputs: 1; Max V+: 5.5V; Op Pwr Diss: 550µW; Resolution (Bits): 12; Settling Time: 6µs; Single Supply: Yes; DatasheetVersion: Rev.F; PackageVersion: 072809-A; PackageReference: KS-6; PackageDescription: 6-Lead Thin Shrink Small Outline Transistor Package [SC70]; Supplier 1: Digi-Key; Supplier Part Number 1: AD5621BKSZ-REEL7TR-ND; Supplier 2: Digi-Key; Supplier Part Number 2: AD5621BKSZ-REEL7CT-ND; Supplier 3: Digi-Key; Supplier Part Number 3: AD5621BKSZ-REEL7DKR-ND; Supplier 4: Farnell; Supplier Part Number 4: 2312973; Supplier 5: Farnell; Supplier Part Number 5: 2370423; Supplier 6: Newark; Supplier Part Number 6: 64M7534; Supplier 7: Newark; Supplier Part Number 7: 67W3162; Supplier 8: Mouser; Supplier Part Number 8: 584-AD5621BKSZ-R7; Packing: Reel; RoHS: Y; Mounting Technology: Surface Mount; Code_JEDEC: MO-203-AB; ComponentLink1Description: Manufacturer URL; ComponentLink1URL: http://www.analog.com/en/index.html; ComponentLink2Description: Datasheet; ComponentLink2URL: http://www.analog.com/static/imported-files/data_sheets/AD5601_5611_5621.pdf; ComponentLink3Description: Package Specification; ComponentLink3URL: http://www.analog.com/static/imported-files/packages/PKG_PDF/SC70(KS)/KS_6.pdf; ComponentLink4Description: Product URL; ComponentLink4URL: http://www.analog.com/en/digital-to-analog-converters/da-converters/ad5621/products/product.html; ComponentLink5Description: Reference Design URL; ComponentLink5URL: http://www.analog.com/en/digital-to-analog-converters/da-converters/ad5621/products/product.html#prod_cross_sell
footprint KS-6_N (SOT23, 6-Leads, Body 2x1.3mm, Pitch 0.65mm, Lead Span 2.1mm, IPC Medium Density)
footprint KS-6_L (SOT23, 6-Leads, Body 2x1.3mm, Pitch 0.65mm, Lead Span 2.1mm, IPC High Density)
footprint KS-6_M (SOT23, 6-Leads, Body 2x1.3mm, Pitch 0.65mm, Lead Span 2.1mm, IPC Low Density)
pins: 1 ~{SYNC} (in) "Level-Triggered Control Input (Active Low). This is the frame synchronization signal for the input data. When S\Y\N\C\ goes low, it enables the input shift register, and data is transferred in on the falling edges of the (See Datasheet)", 2 SCLK (in) "Serial Clock Input. Data is clocked into the input shift register on the falling edge of the serial clock input. Data can be transferred at rates up to 30 MHz.", 3 SDIN (in) "Serial Data Input. This device has a 16-bit shift register. Data is clocked into the register on the falling edge of the serial clock input.", 4 VDD (power) "Power Supply Input. The AD5621 can be operated from 2.7 V to 5.5 V. VDD should be decoupled to GND.", 5 GND (power) "Ground. Ground reference point for all circuitry on the AD5621.", 6 VOUT (hiz) "Analog Output Voltage from the DAC. The output amplifier has rail-to-rail operation."

## AD5622ACPZ-2-RL7
designator U?
Single 12-Bit nanoDAC with I2C Interface, 2.7 to 5.5 V, <100 uA, -40 to +85 degC, CP-6-5, Pb-Free, Reel; Generic Part Number: AD5622; Manufacturer: Analog Devices; PartNumber: AD5622ACPZ-2-RL7; # DAC Outputs: 1; Max V+: 5.5V; Op Pwr Diss: 500µW; Resolution (Bits): 12; Settling Time: 6µs; Single Supply: Yes; DatasheetVersion: Rev.C; PackageVersion: 10-18-2010 A; PackageReference: CP-6-5; PackageDescription: 6-Lead Lead Frame Chip Scale Package [LFCSP_WD] 2 × 3 mm Body, Very Very Thin, Dual Lead; Supplier 1: Digi-Key; Supplier Part Number 1: AD5622ACPZ-2-RL7TR-ND; Supplier 2: Digi-Key; Supplier Part Number 2: AD5622ACPZ-2-RL7CT-ND; Supplier 3: Digi-Key; Supplier Part Number 3: AD5622ACPZ-2-RL7DKR-ND; Supplier 4: Mouser; Supplier Part Number 4: 584-AD5622ACPZ-2-R7; Packing: Reel; RoHS: Y; Mounting Technology: Surface Mount; Code_JEDEC: MO-229; ComponentLink1Description: Manufacturer URL; ComponentLink1URL: http://www.analog.com/en/index.html; ComponentLink2Description: Datasheet; ComponentLink2URL: http://www.analog.com/static/imported-files/data_sheets/AD5602_5612_5622.pdf; ComponentLink3Description: Package Specification; ComponentLink3URL: http://www.analog.com/static/imported-files/data_sheets/AD5062.pdf; ComponentLink4Description: Product URL; ComponentLink4URL: http://www.analog.com/en/digital-to-analog-converters/da-converters/ad5622/products/product.html
footprint CP-6-5_N (SON, 6-Leads, Body 3x2mm, Pitch 0.65mm, Thermal Pad 1.6x1.4mm, IPC Medium Density)
footprint CP-6-5_L (SON, 6-Leads, Body 3x2mm, Pitch 0.65mm, Thermal Pad 1.6x1.4mm, IPC High Density)
footprint CP-6-5_M (SON, 6-Leads, Body 3x2mm, Pitch 0.65mm, Thermal Pad 1.6x1.4mm, IPC Low Density)
pins: 1 ADDR (in) "Three-State Address Input. Sets the two least significant bits (Bit A1, Bit A0) of the 7-bit slave address (see Table 7).", 2 GND (power) "Ground. The ground reference point for all circuitry on the part.", 3 VOUT (hiz) "Analog Output Voltage from the DAC. The output amplifier has rail-to-rail operation.", 4 VDD (power) "Power Supply Input. These parts can be operated from 2.7 V to 5.5 V, and VDD should be decoupled to GND.", 5 SCL (in) "Serial Clock Line. This is used in conjunction with the SDA line to clock data into or out of the 16-bit input register.", 6 SDA (io) "Serial Data Line. This is used in conjunction with the SCL line to clock data into or out of the 16-bit input register. It is a bidirectional, open-drain data line that should be pulled to the supply with an external pull-up (See Datasheet)", 7 EP (power) "Exposed Pad. The exposed pad should be connected to ground (GND)."

## AD5622AKSZ-2REEL7
designator U?
Single 12-Bit nanoDAC with I2C Interface, 2.7 to 5.5 V, <100 uA, -40 to +85 degC, KS-6, Pb-Free, Reel; Generic Part Number: AD5622; Manufacturer: Analog Devices; PartNumber: AD5622AKSZ-2REEL7; # DAC Outputs: 1; Max V+: 5.5V; Op Pwr Diss: 500µW; Resolution (Bits): 12; Settling Time: 6µs; Single Supply: Yes; DatasheetVersion: Rev.C; PackageVersion: 072809-A; PackageReference: KS-6; PackageDescription: 6-Lead Thin Shrink Small Outline Transistor Package [SC70]; Supplier 1: Digi-Key; Supplier Part Number 1: AD5622AKSZ-2REEL7TR-ND; Supplier 2: Digi-Key; Supplier Part Number 2: AD5622AKSZ-2REEL7CT-ND; Supplier 3: Digi-Key; Supplier Part Number 3: AD5622AKSZ-2REEL7DKR-ND; Supplier 4: Farnell; Supplier Part Number 4: 2312974; Supplier 5: Newark; Supplier Part Number 5: 67W3163; Supplier 6: Newark; Supplier Part Number 6: 59K4278; Supplier 7: Mouser; Supplier Part Number 7: 584-AD5622AKSZ-2R7; Packing: Reel; RoHS: Y; Mounting Technology: Surface Mount; Code_JEDEC: MO-203-AB; ComponentLink1Description: Manufacturer URL; ComponentLink1URL: http://www.analog.com/en/index.html; ComponentLink2Description: Datasheet; ComponentLink2URL: http://www.analog.com/static/imported-files/data_sheets/AD5602_5612_5622.pdf; ComponentLink3Description: Package Specification; ComponentLink3URL: http://www.analog.com/static/imported-files/packages/PKG_PDF/SC70(KS)/KS_6.pdf; ComponentLink4Description: Product URL; ComponentLink4URL: http://www.analog.com/en/digital-to-analog-converters/da-converters/ad5622/products/product.html
footprint KS-6_N (SOT23, 6-Leads, Body 2x1.3mm, Pitch 0.65mm, Lead Span 2.1mm, IPC Medium Density)
footprint KS-6_L (SOT23, 6-Leads, Body 2x1.3mm, Pitch 0.65mm, Lead Span 2.1mm, IPC High Density)
footprint KS-6_M (SOT23, 6-Leads, Body 2x1.3mm, Pitch 0.65mm, Lead Span 2.1mm, IPC Low Density)
pins: 1 ADDR (in) "Three-State Address Input. Sets the two least significant bits (Bit A1, Bit A0) of the 7-bit slave address (see Table 7).", 2 SCL (in) "Serial Clock Line. This is used in conjunction with the SDA line to clock data into or out of the 16-bit input register.", 3 SDA (io) "Serial Data Line. This is used in conjunction with the SCL line to clock data into or out of the 16-bit input register. It is a bidirectional, open-drain data line that should be pulled to the supply with an external pull-up (See Datasheet)", 4 VDD (power) "Power Supply Input. These parts can be operated from 2.7 V to 5.5 V, and VDD should be decoupled to GND.", 5 GND (power) "Ground. The ground reference point for all circuitry on the part.", 6 VOUT (hiz) "Analog Output Voltage from the DAC. The output amplifier has rail-to-rail operation."

## AD5622AKSZ-2500RL7
designator U?
Single 12-Bit nanoDAC with I2C Interface, 2.7 to 5.5 V, <100 uA, -40 to +85 degC, KS-6, Pb-Free, Reel; Generic Part Number: AD5622; Manufacturer: Analog Devices; PartNumber: AD5622AKSZ-2500RL7; # DAC Outputs: 1; Max V+: 5.5V; Op Pwr Diss: 500µW; Resolution (Bits): 12; Settling Time: 6µs; Single Supply: Yes; DatasheetVersion: Rev.C; PackageVersion: 072809-A; PackageReference: KS-6; PackageDescription: 6-Lead Thin Shrink Small Outline Transistor Package [SC70]; Supplier 1: Digi-Key; Supplier Part Number 1: AD5622AKSZ-2500RL7TR-ND; Supplier 2: Digi-Key; Supplier Part Number 2: AD5622AKSZ-2500RL7CT-ND; Supplier 3: Digi-Key; Supplier Part Number 3: AD5622AKSZ-2500RL7DKR-ND; Supplier 4: Farnell; Supplier Part Number 4: 1814347; Supplier 5: Newark; Supplier Part Number 5: 74R7496; Supplier 6: Newark; Supplier Part Number 6: 59K4279; Supplier 7: Mouser; Supplier Part Number 7: 584-AD5622AKSZ2500R7; Packing: Reel; RoHS: Y; Mounting Technology: Surface Mount; Code_JEDEC: MO-203-AB; ComponentLink1Description: Manufacturer URL; ComponentLink1URL: http://www.analog.com/en/index.html; ComponentLink2Description: Datasheet; ComponentLink2URL: http://www.analog.com/static/imported-files/data_sheets/AD5602_5612_5622.pdf; ComponentLink3Description: Package Specification; ComponentLink3URL: http://www.analog.com/static/imported-files/packages/PKG_PDF/SC70(KS)/KS_6.pdf; ComponentLink4Description: Product URL; ComponentLink4URL: http://www.analog.com/en/digital-to-analog-converters/da-converters/ad5622/products/product.html
footprint KS-6_N (SOT23, 6-Leads, Body 2x1.3mm, Pitch 0.65mm, Lead Span 2.1mm, IPC Medium Density)
footprint KS-6_L (SOT23, 6-Leads, Body 2x1.3mm, Pitch 0.65mm, Lead Span 2.1mm, IPC High Density)
footprint KS-6_M (SOT23, 6-Leads, Body 2x1.3mm, Pitch 0.65mm, Lead Span 2.1mm, IPC Low Density)
pins: 1 ADDR (in) "Three-State Address Input. Sets the two least significant bits (Bit A1, Bit A0) of the 7-bit slave address (see Table 7).", 2 SCL (in) "Serial Clock Line. This is used in conjunction with the SDA line to clock data into or out of the 16-bit input register.", 3 SDA (io) "Serial Data Line. This is used in conjunction with the SCL line to clock data into or out of the 16-bit input register. It is a bidirectional, open-drain data line that should be pulled to the supply with an external pull-up (See Datasheet)", 4 VDD (power) "Power Supply Input. These parts can be operated from 2.7 V to 5.5 V, and VDD should be decoupled to GND.", 5 GND (power) "Ground. The ground reference point for all circuitry on the part.", 6 VOUT (hiz) "Analog Output Voltage from the DAC. The output amplifier has rail-to-rail operation."

## AD5622BKSZ-2REEL7
designator U?
Single 12-Bit nanoDAC with I2C Interface, 2.7 to 5.5 V, <100 uA, -40 to +85 degC, KS-6, Pb-Free, Reel; Generic Part Number: AD5622; Manufacturer: Analog Devices; PartNumber: AD5622BKSZ-2REEL7; # DAC Outputs: 1; Max V+: 5.5V; Op Pwr Diss: 500µW; Resolution (Bits): 12; Settling Time: 6µs; Single Supply: Yes; DatasheetVersion: Rev.C; PackageVersion: 072809-A; PackageReference: KS-6; PackageDescription: 6-Lead Thin Shrink Small Outline Transistor Package [SC70]; Supplier 1: Digi-Key; Supplier Part Number 1: AD5622BKSZ-2REEL7TR-ND; Supplier 2: Digi-Key; Supplier Part Number 2: AD5622BKSZ-2REEL7CT-ND; Supplier 3: Digi-Key; Supplier Part Number 3: AD5622BKSZ-2REEL7DKR-ND; Supplier 4: Farnell; Supplier Part Number 4: 2312975; Supplier 5: Newark; Supplier Part Number 5: 67W3164; Supplier 6: Newark; Supplier Part Number 6: 59K4280; Supplier 7: Mouser; Supplier Part Number 7: 584-AD5622BKSZ-2R7; Packing: Reel; RoHS: Y; Mounting Technology: Surface Mount; Code_JEDEC: MO-203-AB; ComponentLink1Description: Manufacturer URL; ComponentLink1URL: http://www.analog.com/en/index.html; ComponentLink2Description: Datasheet; ComponentLink2URL: http://www.analog.com/static/imported-files/data_sheets/AD5602_5612_5622.pdf; ComponentLink3Description: Package Specification; ComponentLink3URL: http://www.analog.com/static/imported-files/packages/PKG_PDF/SC70(KS)/KS_6.pdf; ComponentLink4Description: Product URL; ComponentLink4URL: http://www.analog.com/en/digital-to-analog-converters/da-converters/ad5622/products/product.html
footprint KS-6_N (SOT23, 6-Leads, Body 2x1.3mm, Pitch 0.65mm, Lead Span 2.1mm, IPC Medium Density)
footprint KS-6_L (SOT23, 6-Leads, Body 2x1.3mm, Pitch 0.65mm, Lead Span 2.1mm, IPC High Density)
footprint KS-6_M (SOT23, 6-Leads, Body 2x1.3mm, Pitch 0.65mm, Lead Span 2.1mm, IPC Low Density)
pins: 1 ADDR (in) "Three-State Address Input. Sets the two least significant bits (Bit A1, Bit A0) of the 7-bit slave address (see Table 7).", 2 SCL (in) "Serial Clock Line. This is used in conjunction with the SDA line to clock data into or out of the 16-bit input register.", 3 SDA (io) "Serial Data Line. This is used in conjunction with the SCL line to clock data into or out of the 16-bit input register. It is a bidirectional, open-drain data line that should be pulled to the supply with an external pull-up (See Datasheet)", 4 VDD (power) "Power Supply Input. These parts can be operated from 2.7 V to 5.5 V, and VDD should be decoupled to GND.", 5 GND (power) "Ground. The ground reference point for all circuitry on the part.", 6 VOUT (hiz) "Analog Output Voltage from the DAC. The output amplifier has rail-to-rail operation."

## AD5622BKSZ-2500RL7
designator U?
Single 12-Bit nanoDAC with I2C Interface, 2.7 to 5.5 V, <100 uA, -40 to +85 degC, KS-6, Pb-Free, Reel; Generic Part Number: AD5622; Manufacturer: Analog Devices; PartNumber: AD5622BKSZ-2500RL7; # DAC Outputs: 1; Max V+: 5.5V; Op Pwr Diss: 500µW; Resolution (Bits): 12; Settling Time: 6µs; Single Supply: Yes; DatasheetVersion: Rev.C; PackageVersion: 072809-A; PackageReference: KS-6; PackageDescription: 6-Lead Thin Shrink Small Outline Transistor Package [SC70]; Supplier 1: Digi-Key; Supplier Part Number 1: AD5622BKSZ-2500RL7TR-ND; Supplier 2: Digi-Key; Supplier Part Number 2: AD5622BKSZ-2500RL7CT-ND; Supplier 3: Digi-Key; Supplier Part Number 3: AD5622BKSZ-2500RL7DKR-ND; Supplier 4: Newark; Supplier Part Number 4: 59K4281; Supplier 5: Mouser; Supplier Part Number 5: 584-AD5622BKSZ2500R7; Packing: Reel; RoHS: Y; Mounting Technology: Surface Mount; Code_JEDEC: MO-203-AB; ComponentLink1Description: Manufacturer URL; ComponentLink1URL: http://www.analog.com/en/index.html; ComponentLink2Description: Datasheet; ComponentLink2URL: http://www.analog.com/static/imported-files/data_sheets/AD5602_5612_5622.pdf; ComponentLink3Description: Package Specification; ComponentLink3URL: http://www.analog.com/static/imported-files/packages/PKG_PDF/SC70(KS)/KS_6.pdf; ComponentLink4Description: Product URL; ComponentLink4URL: http://www.analog.com/en/digital-to-analog-converters/da-converters/ad5622/products/product.html
footprint KS-6_N (SOT23, 6-Leads, Body 2x1.3mm, Pitch 0.65mm, Lead Span 2.1mm, IPC Medium Density)
footprint KS-6_L (SOT23, 6-Leads, Body 2x1.3mm, Pitch 0.65mm, Lead Span 2.1mm, IPC High Density)
footprint KS-6_M (SOT23, 6-Leads, Body 2x1.3mm, Pitch 0.65mm, Lead Span 2.1mm, IPC Low Density)
pins: 1 ADDR (in) "Three-State Address Input. Sets the two least significant bits (Bit A1, Bit A0) of the 7-bit slave address (see Table 7).", 2 SCL (in) "Serial Clock Line. This is used in conjunction with the SDA line to clock data into or out of the 16-bit input register.", 3 SDA (io) "Serial Data Line. This is used in conjunction with the SCL line to clock data into or out of the 16-bit input register. It is a bidirectional, open-drain data line that should be pulled to the supply with an external pull-up (See Datasheet)", 4 VDD (power) "Power Supply Input. These parts can be operated from 2.7 V to 5.5 V, and VDD should be decoupled to GND.", 5 GND (power) "Ground. The ground reference point for all circuitry on the part.", 6 VOUT (hiz) "Analog Output Voltage from the DAC. The output amplifier has rail-to-rail operation."

## AD5622WKSZ-1REEL7
designator U?
Single 12-Bit nanoDAC with I2C Interface, 2.7 to 5.5 V, <100 uA, -40 to +125 degC, KS-6, Pb-Free, Reel; Generic Part Number: AD5622; Manufacturer: Analog Devices; PartNumber: AD5622WKSZ-1REEL7; # DAC Outputs: 1; Max V+: 5.5V; Op Pwr Diss: 500µW; Resolution (Bits): 12; Settling Time: 6µs; Single Supply: Yes; DatasheetVersion: Rev.C; PackageVersion: 072809-A; PackageReference: KS-6; PackageDescription: 6-Lead Thin Shrink Small Outline Transistor Package [SC70]; Supplier 1: Digi-Key; Supplier Part Number 1: AD5622WKSZ-1REEL7TR-ND; Supplier 2: Digi-Key; Supplier Part Number 2: AD5622WKSZ-1REEL7CT-ND; Supplier 3: Digi-Key; Supplier Part Number 3: AD5622WKSZ-1REEL7DKR-ND; Supplier 4: Newark; Supplier Part Number 4: 59K4282; Supplier 5: Mouser; Supplier Part Number 5: 584-AD5622WKSZ-1R7; Packing: Reel; RoHS: Y; Mounting Technology: Surface Mount; Code_JEDEC: MO-203-AB; ComponentLink1Description: Manufacturer URL; ComponentLink1URL: http://www.analog.com/en/index.html; ComponentLink2Description: Datasheet; ComponentLink2URL: http://www.analog.com/static/imported-files/data_sheets/AD5602_5612_5622.pdf; ComponentLink3Description: Package Specification; ComponentLink3URL: http://www.analog.com/static/imported-files/packages/PKG_PDF/SC70(KS)/KS_6.pdf; ComponentLink4Description: Product URL; ComponentLink4URL: http://www.analog.com/en/digital-to-analog-converters/da-converters/ad5622/products/product.html
footprint KS-6_N (SOT23, 6-Leads, Body 2x1.3mm, Pitch 0.65mm, Lead Span 2.1mm, IPC Medium Density)
footprint KS-6_L (SOT23, 6-Leads, Body 2x1.3mm, Pitch 0.65mm, Lead Span 2.1mm, IPC High Density)
footprint KS-6_M (SOT23, 6-Leads, Body 2x1.3mm, Pitch 0.65mm, Lead Span 2.1mm, IPC Low Density)
pins: 1 ADDR (in) "Three-State Address Input. Sets the two least significant bits (Bit A1, Bit A0) of the 7-bit slave address (see Table 7).", 2 SCL (in) "Serial Clock Line. This is used in conjunction with the SDA line to clock data into or out of the 16-bit input register.", 3 SDA (io) "Serial Data Line. This is used in conjunction with the SCL line to clock data into or out of the 16-bit input register. It is a bidirectional, open-drain data line that should be pulled to the supply with an external pull-up (See Datasheet)", 4 VDD (power) "Power Supply Input. These parts can be operated from 2.7 V to 5.5 V, and VDD should be decoupled to GND.", 5 GND (power) "Ground. The ground reference point for all circuitry on the part.", 6 VOUT (hiz) "Analog Output Voltage from the DAC. The output amplifier has rail-to-rail operation."